# Altium integrated library NSC Audio.IntLib: 691 symbols (part 13 of 18)
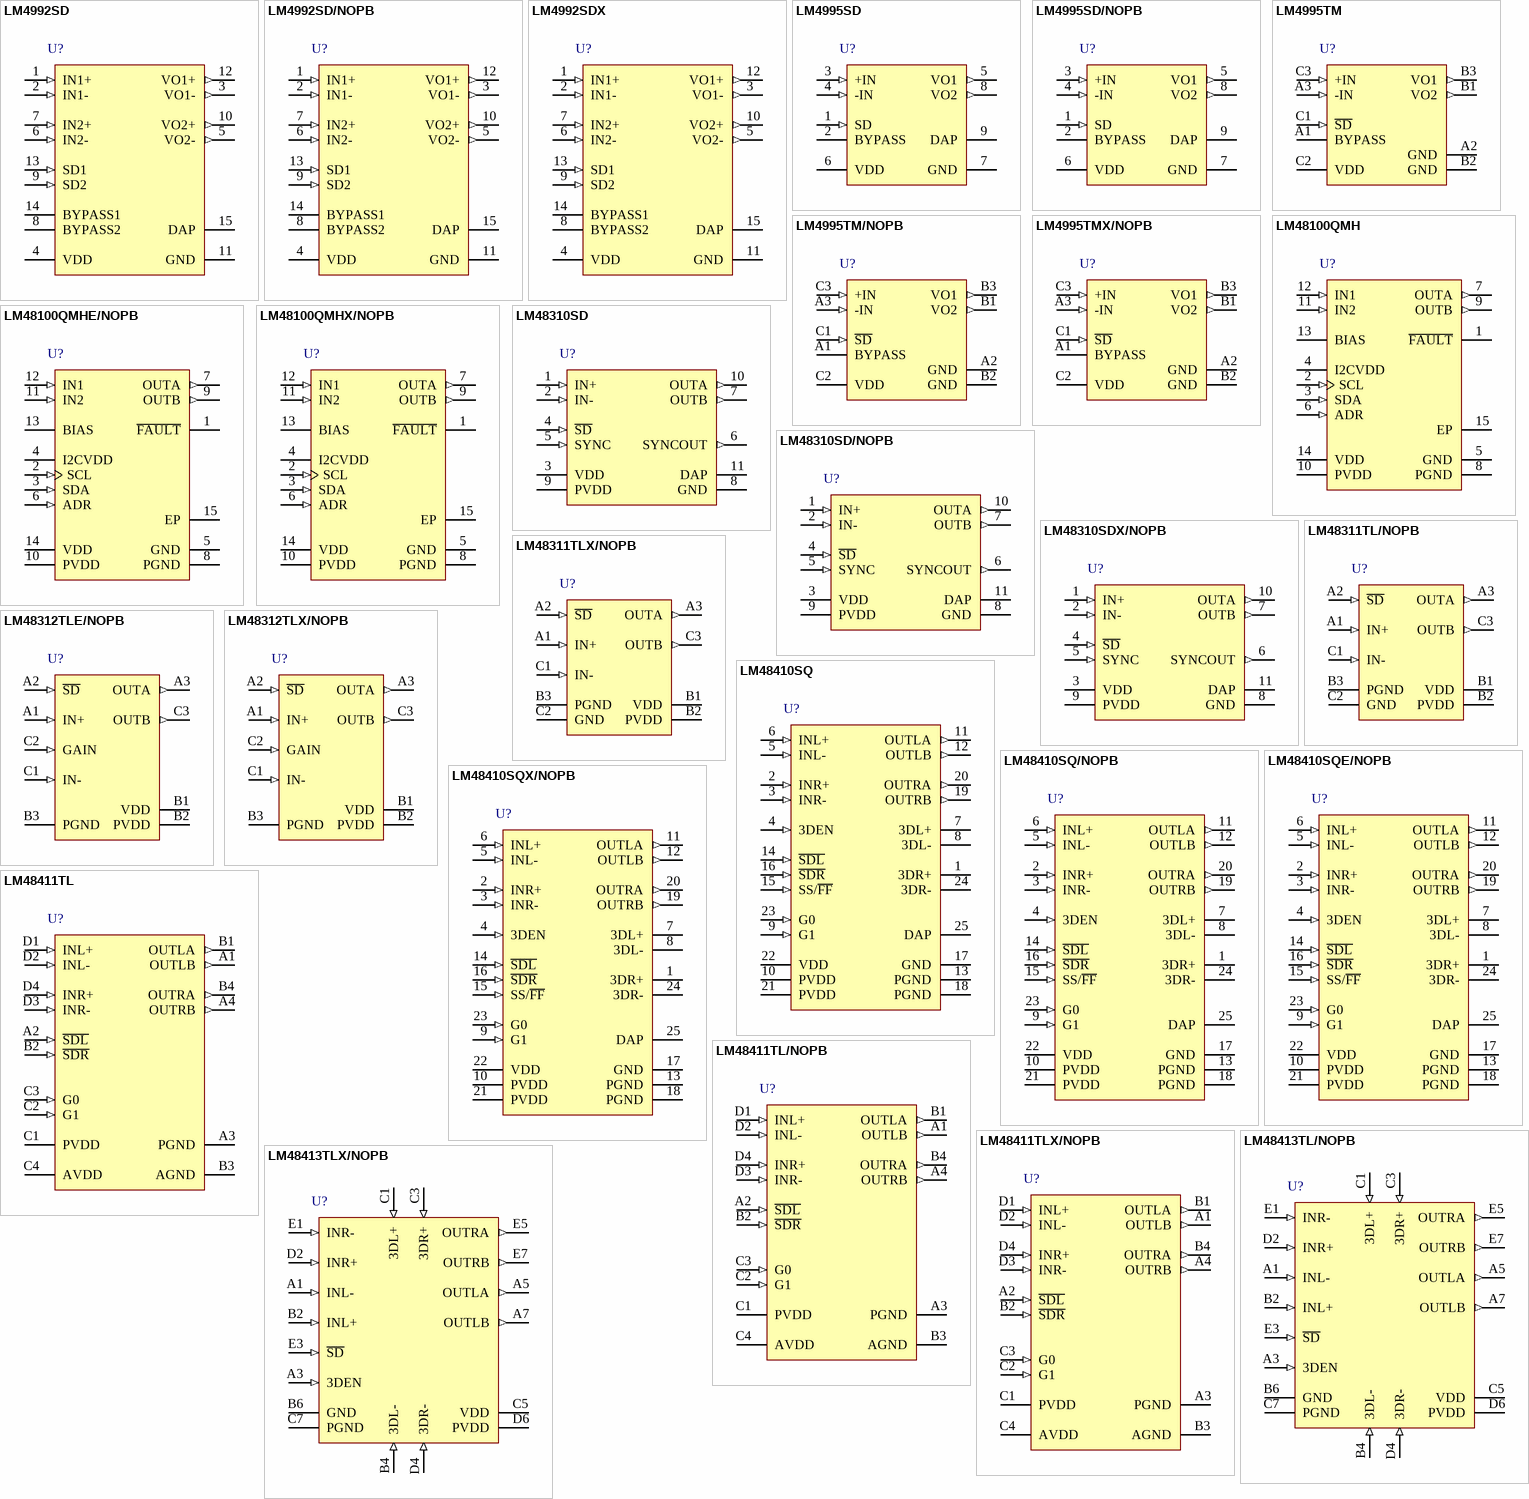
[diagram p39: symbols LM4992SD to LM48413TLX/NOPB]

## LM4992SD
designator U?
420mW Stereo Cell Phone Audio Amplifier, 15-pin LLP; PartNumber: LM4992SD; Manufacturer: National Semiconductor; PowerWise: N; CompType: Audio IC; Published: 4-Dec-2008; DatasheetVersion: Feb-2004; PackageVersion: revA, Jun-2003; PackageReference: SDA14A; Publisher: Altium Limited; PackageDescription: LLP, Plastic, Dual, 4 x 3 x 0.8mm Body, 14 Lead, 0.5mm Pitch, No Pullback; RoHS: N; PinCount: 14; ComponentLink1Description: LM4992 Datasheet; ComponentLink1URL: http://www.national.com/ds/LM/LM4992.pdf; ComponentLink2Description: LM4992 Web Page; ComponentLink2URL: http://www.national.com/pf/LM/LM4992.html; ComponentLink3Description: SDA14A Package Page; ComponentLink3URL: http://www.national.com/packaging/folders/sda14a.html
footprint SDA14A (SON, 14-Leads, Body 4x3mm, Pitch 0.5mm, NSC Recommended)
pins: 1 IN1+ (in), 2 IN1- (in), 3 VO1- (out), 4 VDD (power), 5 VO2- (out), 6 IN2- (in), 7 IN2+ (in), 8 BYPASS2, 9 SD2 (in), 10 VO2+ (out), 11 GND (power), 12 VO1+ (out), 13 SD1 (in), 14 BYPASS1, 15 DAP (power)

## LM4992SD/NOPB
designator U?
420mW Stereo Cell Phone Audio Amplifier, 14-pin LLP, Pb-Free; PartNumber: LM4992SD/NOPB; Manufacturer: National Semiconductor; PowerWise: N; CompType: Audio IC; Published: 1-Mar-2010; DatasheetVersion: Feb-2004; PackageVersion: revA, Jun-2003; PackageReference: SDA14A; Publisher: Altium Limited; PackageDescription: LLP, Plastic, Dual, 4 x 3 x 0.8mm Body, 14 Lead, 0.5mm Pitch, No Pullback; Supplier 1: Digi-Key; Supplier Part Number 1: LM4992SDTR-ND; Supplier 2: Digi-Key; Supplier Part Number 2: LM4992SDCT-ND; Supplier 3: Digi-Key; Supplier Part Number 3: LM4992SDDKR-ND; RoHS: Y; PinCount: 14; ComponentLink1Description: LM4992 Datasheet; ComponentLink1URL: http://www.national.com/ds/LM/LM4992.pdf; ComponentLink2Description: LM4992 Web Page; ComponentLink2URL: http://www.national.com/pf/LM/LM4992.html; ComponentLink3Description: SDA14A Package Page; ComponentLink3URL: http://www.national.com/packaging/folders/sda14a.html
footprint SDA14A (SON, 14-Leads, Body 4x3mm, Pitch 0.5mm, NSC Recommended)
pins: 1 IN1+ (in), 2 IN1- (in), 3 VO1- (out), 4 VDD (power), 5 VO2- (out), 6 IN2- (in), 7 IN2+ (in), 8 BYPASS2, 9 SD2 (in), 10 VO2+ (out), 11 GND (power), 12 VO1+ (out), 13 SD1 (in), 14 BYPASS1, 15 DAP (power)

## LM4992SDX
designator U?
420mW Stereo Cell Phone Audio Amplifier, 14-pin LLP; PartNumber: LM4992SDX; Manufacturer: National Semiconductor; PowerWise: N; CompType: Audio IC; Published: 1-Mar-2010; DatasheetVersion: Feb-2004; PackageVersion: revA, Jun-2003; PackageReference: SDA14A; Publisher: Altium Limited; PackageDescription: LLP, Plastic, Dual, 4 x 3 x 0.8mm Body, 14 Lead, 0.5mm Pitch, No Pullback; RoHS: N; PinCount: 14; ComponentLink1Description: LM4992 Datasheet; ComponentLink1URL: http://www.national.com/ds/LM/LM4992.pdf; ComponentLink2Description: LM4992 Web Page; ComponentLink2URL: http://www.national.com/pf/LM/LM4992.html; ComponentLink3Description: SDA14A Package Page; ComponentLink3URL: http://www.national.com/packaging/folders/sda14a.html
footprint SDA14A (SON, 14-Leads, Body 4x3mm, Pitch 0.5mm, NSC Recommended)
pins: 1 IN1+ (in), 2 IN1- (in), 3 VO1- (out), 4 VDD (power), 5 VO2- (out), 6 IN2- (in), 7 IN2+ (in), 8 BYPASS2, 9 SD2 (in), 10 VO2+ (out), 11 GND (power), 12 VO1+ (out), 13 SD1 (in), 14 BYPASS1, 15 DAP (power)

## LM4995SD
designator U?
1.3W Audio Power Amplifier, 9-pin LLP; PartNumber: LM4995SD; Manufacturer: National Semiconductor; PackageTopMarking: ZXYTT*L4995; PowerWise: N; CompType: Audio IC; Published: 4-Dec-2008; DatasheetVersion: Nov-2009; PackageVersion: revA, Aug-2003; PackageReference: SDA08A; Publisher: Altium Limited; PackageDescription: LLP, Plastic, Dual, 3 x 3 x 0.8mm Body, 8 Lead, 0.5mm Pitch, No Pullback; RoHS: Y; PinCount: 8; ComponentLink1Description: LM4995 Datasheet; ComponentLink1URL: http://www.national.com/ds/LM/LM4995.pdf; ComponentLink2Description: LM4995 Web Page; ComponentLink2URL: http://www.national.com/pf/LM/LM4995.html; ComponentLink3Description: SDA08A Package Page; ComponentLink3URL: http://www.national.com/packaging/folders/sda08a.html
footprint SDA08A (SON, 8-Leads, Body 3x3mm, Pitch 0.5mm, NSC Recommended)
pins: 1 SD (in), 2 BYPASS, 3 +IN (in), 4 -IN (in), 5 VO1 (out), 6 VDD (power), 7 GND (power), 8 VO2 (out), 9 DAP (power)

## LM4995SD/NOPB
designator U?
1.3W Audio Power Amplifier, 8-pin LLP, Pb-Free; PartNumber: LM4995SD/NOPB; Manufacturer: National Semiconductor; PackageTopMarking: ZXYTT*L4995; PowerWise: N; CompType: Audio IC; Published: 1-Mar-2010; DatasheetVersion: Nov-2009; PackageVersion: revA, Aug-2003; PackageReference: SDA08A; Publisher: Altium Limited; PackageDescription: LLP, Plastic, Dual, 3 x 3 x 0.8mm Body, 8 Lead, 0.5mm Pitch, No Pullback; Supplier 1: Digi-Key; Supplier Part Number 1: LM4995SDTR-ND; Supplier 2: Digi-Key; Supplier Part Number 2: LM4995SDCT-ND; Supplier 3: Digi-Key; Supplier Part Number 3: LM4995SDDKR-ND; RoHS: Y; PinCount: 8; ComponentLink1Description: LM4995 Datasheet; ComponentLink1URL: http://www.national.com/ds/LM/LM4995.pdf; ComponentLink2Description: LM4995 Web Page; ComponentLink2URL: http://www.national.com/pf/LM/LM4995.html; ComponentLink3Description: SDA08A Package Page; ComponentLink3URL: http://www.national.com/packaging/folders/sda08a.html
footprint SDA08A (SON, 8-Leads, Body 3x3mm, Pitch 0.5mm, NSC Recommended)
pins: 1 SD (in), 2 BYPASS, 3 +IN (in), 4 -IN (in), 5 VO1 (out), 6 VDD (power), 7 GND (power), 8 VO2 (out), 9 DAP (power)

## LM4995TM
designator U?
1.3W Audio Power Amplifier, 9-pin Micro SMD; PartNumber: LM4995TM; Manufacturer: National Semiconductor; PackageTopMarking: XVG*I G8; PowerWise: Y; CompType: Audio IC; Published: 4-Dec-2008; DatasheetVersion: Nov-2009; PackageVersion: revA, May-2005; PackageReference: TMD09AAA; Publisher: Altium Limited; PackageDescription: Thin Micro SMD, 9 Bump, 0.4mm Pitch; RoHS: Y; PinCount: 9; ComponentLink1Description: LM4995 Datasheet; ComponentLink1URL: http://www.national.com/ds/LM/LM4995.pdf; ComponentLink2Description: LM4995 Web Page; ComponentLink2URL: http://www.national.com/pf/LM/LM4995.html; ComponentLink3Description: TMD09AAA Package Page; ComponentLink3URL: http://www.national.com/packaging/folders/tmd09aaa.html
footprint TMD09AAA (Micro SMD, 9-Leads, Body 1.22x1.22mm, Pitch 0.4mm, NSC Recommended)
pins: A1 BYPASS, A2 GND (power), A3 -IN (in), B1 VO2 (out), B2 GND (power), B3 VO1 (out), C1 ~{SD} (in), C2 VDD (power), C3 +IN (in)

## LM4995TM/NOPB
designator U?
1.3W Audio Power Amplifier, 9-pin Micro SMD, Pb-Free; PartNumber: LM4995TM/NOPB; Manufacturer: National Semiconductor; PackageTopMarking: XVG*I G8; PowerWise: Y; CompType: Audio IC; Published: 1-Mar-2010; DatasheetVersion: Nov-2009; PackageVersion: revA, May-2005; PackageReference: TMD09AAA; Publisher: Altium Limited; PackageDescription: Thin Micro SMD, 9 Bump, 0.4mm Pitch; Supplier 1: Digi-Key; Supplier Part Number 1: LM4995TMTR-ND; Supplier 2: Digi-Key; Supplier Part Number 2: LM4995TMCT-ND; Supplier 3: Digi-Key; Supplier Part Number 3: LM4995TMDKR-ND; RoHS: Y; PinCount: 9; ComponentLink1Description: LM4995 Datasheet; ComponentLink1URL: http://www.national.com/ds/LM/LM4995.pdf; ComponentLink2Description: LM4995 Web Page; ComponentLink2URL: http://www.national.com/pf/LM/LM4995.html; ComponentLink3Description: TMD09AAA Package Page; ComponentLink3URL: http://www.national.com/packaging/folders/tmd09aaa.html
footprint TMD09AAA (Micro SMD, 9-Leads, Body 1.22x1.22mm, Pitch 0.4mm, NSC Recommended)
pins: A1 BYPASS, A2 GND (power), A3 -IN (in), B1 VO2 (out), B2 GND (power), B3 VO1 (out), C1 ~{SD} (in), C2 VDD (power), C3 +IN (in)

## LM4995TMX/NOPB
designator U?
1.3W Audio Power Amplifier, 9-pin Micro SMD, Pb-Free; PartNumber: LM4995TMX/NOPB; Manufacturer: National Semiconductor; PackageTopMarking: XVG*I G8; PowerWise: Y; CompType: Audio IC; Published: 1-Mar-2010; DatasheetVersion: Nov-2009; PackageVersion: revA, May-2005; PackageReference: TMD09AAA; Publisher: Altium Limited; PackageDescription: Thin Micro SMD, 9 Bump, 0.4mm Pitch; Supplier 1: Digi-Key; Supplier Part Number 1: LM4995TMX-ND; RoHS: Y; PinCount: 9; ComponentLink1Description: LM4995 Datasheet; ComponentLink1URL: http://www.national.com/ds/LM/LM4995.pdf; ComponentLink2Description: LM4995 Web Page; ComponentLink2URL: http://www.national.com/pf/LM/LM4995.html; ComponentLink3Description: TMD09AAA Package Page; ComponentLink3URL: http://www.national.com/packaging/folders/tmd09aaa.html
footprint TMD09AAA (Micro SMD, 9-Leads, Body 1.22x1.22mm, Pitch 0.4mm, NSC Recommended)
pins: A1 BYPASS, A2 GND (power), A3 -IN (in), B1 VO2 (out), B2 GND (power), B3 VO1 (out), C1 ~{SD} (in), C2 VDD (power), C3 +IN (in)

## LM48100QMH
designator U?
Mono, 1.3W Audio Power Amplifier with Output Fault Detection and Volume Control, 15-pin TSSOP-EP; PartNumber: LM48100QMH; Manufacturer: National Semiconductor; PackageTopMarking: NSUZXYTT*L48100Q; PowerWise: Y; CompType: Audio IC; Published: 4-Dec-2008; DatasheetVersion: Nov-2008; PackageVersion: revA, Feb-2003; PackageReference: MXA14A; Publisher: Altium Limited; PackageDescription: Molded TSSOP, JEDEC, Exposed Pad, 5.0 x 4.4 x 0.9mm Body, 14 Lead, 0.65mm Pitch; Supplier 1: Farnell; Supplier Part Number 1: 1697056; RoHS: Y; PinCount: 14; Code_JEDEC: MO-153-ABT-1; ComponentLink1Description: LM48100Q Datasheet; ComponentLink1URL: http://www.national.com/ds/LM/LM48100Q.pdf; ComponentLink2Description: LM48100Q Web Page; ComponentLink2URL: http://www.national.com/pf/LM/LM48100Q.html; ComponentLink3Description: MXA14A Package Page; ComponentLink3URL: http://www.national.com/packaging/folders/mxa14a.html
footprint MXA14A_N (TSOP, 14-Leads, Body 5x4.4mm, Pitch 0.65mm, Exposed Pad, IPC Medium Density)
footprint MXA14A_L (TSOP, 14-Leads, Body 5x4.4mm, Pitch 0.65mm, Exposed Pad, IPC High Density)
footprint MXA14A_M (TSOP, 14-Leads, Body 5x4.4mm, Pitch 0.65mm, Exposed Pad, IPC Low Density)
pins: 1 ~{FAULT} (oc), 2 SCL (in), 3 SDA (in), 4 I2CVDD (power), 5 GND (power), 6 ADR (in), 7 OUTA (out), 8 PGND (power), 9 OUTB (out), 10 PVDD (power), 11 IN2 (in), 12 IN1 (in), 13 BIAS, 14 VDD (power), 15 EP

## LM48100QMHE/NOPB
designator U?
Mono, 1.3W Audio Power Amplifier with Output Fault Detection and Volume Control, 14-pin TSSOP-EP, Pb-Free; PartNumber: LM48100QMHE/NOPB; Manufacturer: National Semiconductor; PackageTopMarking: NSUZXYTT*L48100Q; PowerWise: Y; CompType: Audio IC; Published: 1-Mar-2010; DatasheetVersion: Nov-2008; PackageVersion: revA, Feb-2003; PackageReference: MXA14A; Publisher: Altium Limited; PackageDescription: Molded TSSOP, JEDEC, Exposed Pad, 5.0 x 4.4 x 0.9mm Body, 14 Lead, 0.65mm Pitch; Supplier 1: Digi-Key; Supplier Part Number 1: LM48100QMHETR-ND; Supplier 2: Digi-Key; Supplier Part Number 2: LM48100QMHECT-ND; Supplier 3: Digi-Key; Supplier Part Number 3: LM48100QMHEDKR-ND; RoHS: Y; PinCount: 14; Code_JEDEC: MO-153-ABT-1; ComponentLink1Description: LM48100Q Datasheet; ComponentLink1URL: http://www.national.com/ds/LM/LM48100Q.pdf; ComponentLink2Description: LM48100Q Web Page; ComponentLink2URL: http://www.national.com/pf/LM/LM48100Q.html; ComponentLink3Description: MXA14A Package Page; ComponentLink3URL: http://www.national.com/packaging/folders/mxa14a.html
footprint MXA14A_N (TSOP, 14-Leads, Body 5x4.4mm, Pitch 0.65mm, Exposed Pad, IPC Medium Density)
footprint MXA14A_L (TSOP, 14-Leads, Body 5x4.4mm, Pitch 0.65mm, Exposed Pad, IPC High Density)
footprint MXA14A_M (TSOP, 14-Leads, Body 5x4.4mm, Pitch 0.65mm, Exposed Pad, IPC Low Density)
pins: 1 ~{FAULT} (oc), 2 SCL (in), 3 SDA (in), 4 I2CVDD (power), 5 GND (power), 6 ADR (in), 7 OUTA (out), 8 PGND (power), 9 OUTB (out), 10 PVDD (power), 11 IN2 (in), 12 IN1 (in), 13 BIAS, 14 VDD (power), 15 EP

## LM48100QMHX/NOPB
designator U?
Mono, 1.3W Audio Power Amplifier with Output Fault Detection and Volume Control, 14-pin TSSOP-EP, Pb-Free; PartNumber: LM48100QMHX/NOPB; Manufacturer: National Semiconductor; PackageTopMarking: NSUZXYTT*L48100Q; PowerWise: Y; CompType: Audio IC; Published: 1-Mar-2010; DatasheetVersion: Nov-2008; PackageVersion: revA, Feb-2003; PackageReference: MXA14A; Publisher: Altium Limited; PackageDescription: Molded TSSOP, JEDEC, Exposed Pad, 5.0 x 4.4 x 0.9mm Body, 14 Lead, 0.65mm Pitch; Supplier 1: Digi-Key; Supplier Part Number 1: LM48100QMHX-ND; RoHS: Y; PinCount: 14; Code_JEDEC: MO-153-ABT-1; ComponentLink1Description: LM48100Q Datasheet; ComponentLink1URL: http://www.national.com/ds/LM/LM48100Q.pdf; ComponentLink2Description: LM48100Q Web Page; ComponentLink2URL: http://www.national.com/pf/LM/LM48100Q.html; ComponentLink3Description: MXA14A Package Page; ComponentLink3URL: http://www.national.com/packaging/folders/mxa14a.html
footprint MXA14A_N (TSOP, 14-Leads, Body 5x4.4mm, Pitch 0.65mm, Exposed Pad, IPC Medium Density)
footprint MXA14A_L (TSOP, 14-Leads, Body 5x4.4mm, Pitch 0.65mm, Exposed Pad, IPC High Density)
footprint MXA14A_M (TSOP, 14-Leads, Body 5x4.4mm, Pitch 0.65mm, Exposed Pad, IPC Low Density)
pins: 1 ~{FAULT} (oc), 2 SCL (in), 3 SDA (in), 4 I2CVDD (power), 5 GND (power), 6 ADR (in), 7 OUTA (out), 8 PGND (power), 9 OUTB (out), 10 PVDD (power), 11 IN2 (in), 12 IN1 (in), 13 BIAS, 14 VDD (power), 15 EP

## LM48310SD
designator U?
Ultra-Low EMI, Filterless, 2.6W, Mono, Class D Audio Power Amplifier with E2S, 11-pin LLP; PartNumber: LM48310SD; Manufacturer: National Semiconductor; PackageTopMarking: ZXYTT*GI8; PowerWise: Y; CompType: Audio IC; Published: 4-Dec-2008; DatasheetVersion: Jun-2008; PackageVersion: revA, Oct-2003; PackageReference: SDA10A; Publisher: Altium Limited; PackageDescription: LLP, Plastic, Dual, 3 x 3 x 0.8mm Body, 10 Lead, 0.5mm Pitch, No Pullback; RoHS: Y; PinCount: 10; ComponentLink1Description: LM48310 Datasheet; ComponentLink1URL: http://www.national.com/ds/LM/LM48310.pdf; ComponentLink2Description: LM48310 Web Page; ComponentLink2URL: http://www.national.com/pf/LM/LM48310.html; ComponentLink3Description: SDA10A Package Page; ComponentLink3URL: http://www.national.com/packaging/folders/sda10a.html
footprint SDA10A (SON, 10-Leads, Body 3x3 mm, Pitch 0.5mm, NSC Recommended)
pins: 1 IN+ (in), 2 IN- (in), 3 VDD (power), 4 ~{SD} (in), 5 SYNC (in), 6 SYNCOUT (out), 7 OUTB (out), 8 GND (power), 9 PVDD (power), 10 OUTA (out), 11 DAP (power)

## LM48310SD/NOPB
designator U?
Ultra-Low EMI, Filterless, 2.6W, Mono, Class D Audio Power Amplifier with E2S, 10-pin LLP, Pb-Free; PartNumber: LM48310SD/NOPB; Manufacturer: National Semiconductor; PackageTopMarking: ZXYTT*GI8; PowerWise: Y; CompType: Audio IC; Published: 1-Mar-2010; DatasheetVersion: Jun-2008; PackageVersion: revA, Oct-2003; PackageReference: SDA10A; Publisher: Altium Limited; PackageDescription: LLP, Plastic, Dual, 3 x 3 x 0.8mm Body, 10 Lead, 0.5mm Pitch, No Pullback; Supplier 1: Digi-Key; Supplier Part Number 1: LM48310SDTR-ND; Supplier 2: Digi-Key; Supplier Part Number 2: LM48310SDCT-ND; Supplier 3: Digi-Key; Supplier Part Number 3: LM48310SDDKR-ND; RoHS: Y; PinCount: 10; ComponentLink1Description: LM48310 Datasheet; ComponentLink1URL: http://www.national.com/ds/LM/LM48310.pdf; ComponentLink2Description: LM48310 Web Page; ComponentLink2URL: http://www.national.com/pf/LM/LM48310.html; ComponentLink3Description: SDA10A Package Page; ComponentLink3URL: http://www.national.com/packaging/folders/sda10a.html
footprint SDA10A (SON, 10-Leads, Body 3x3 mm, Pitch 0.5mm, NSC Recommended)
pins: 1 IN+ (in), 2 IN- (in), 3 VDD (power), 4 ~{SD} (in), 5 SYNC (in), 6 SYNCOUT (out), 7 OUTB (out), 8 GND (power), 9 PVDD (power), 10 OUTA (out), 11 DAP (power)

## LM48310SDX/NOPB
designator U?
Ultra-Low EMI, Filterless, 2.6W, Mono, Class D Audio Power Amplifier with E2S, 10-pin LLP, Pb-Free; PartNumber: LM48310SDX/NOPB; Manufacturer: National Semiconductor; PackageTopMarking: ZXYTT*GI8; PowerWise: Y; CompType: Audio IC; Published: 1-Mar-2010; DatasheetVersion: Jun-2008; PackageVersion: revA, Oct-2003; PackageReference: SDA10A; Publisher: Altium Limited; PackageDescription: LLP, Plastic, Dual, 3 x 3 x 0.8mm Body, 10 Lead, 0.5mm Pitch, No Pullback; Supplier 1: Digi-Key; Supplier Part Number 1: LM48310SDX-ND; RoHS: Y; PinCount: 10; ComponentLink1Description: LM48310 Datasheet; ComponentLink1URL: http://www.national.com/ds/LM/LM48310.pdf; ComponentLink2Description: LM48310 Web Page; ComponentLink2URL: http://www.national.com/pf/LM/LM48310.html; ComponentLink3Description: SDA10A Package Page; ComponentLink3URL: http://www.national.com/packaging/folders/sda10a.html
footprint SDA10A (SON, 10-Leads, Body 3x3 mm, Pitch 0.5mm, NSC Recommended)
pins: 1 IN+ (in), 2 IN- (in), 3 VDD (power), 4 ~{SD} (in), 5 SYNC (in), 6 SYNCOUT (out), 7 OUTB (out), 8 GND (power), 9 PVDD (power), 10 OUTA (out), 11 DAP (power)

## LM48311TL/NOPB
designator U?
Ultra-Low EMI, Filterless, 2.6W, Mono, Class D Audio Power Amplifier with E2S, 9-pin Micro SMD, Pb-Free; PartNumber: LM48311TL/NOPB; Manufacturer: National Semiconductor; PackageTopMarking: XVG*I N1; PowerWise: Y; CompType: Audio IC; Published: 1-Mar-2010; DatasheetVersion: Jun-2009; PackageVersion: revC, Jan-2004; PackageReference: TLA09BCA; Publisher: Altium Limited; PackageDescription: Thin Micro SMD, 9 Bump (Large), 0.5mm Pitch; Supplier 1: Digi-Key; Supplier Part Number 1: LM48311TLTR-ND; Supplier 2: Digi-Key; Supplier Part Number 2: LM48311TLCT-ND; Supplier 3: Digi-Key; Supplier Part Number 3: LM48311TLDKR-ND; RoHS: Y; PinCount: 9; Code_JEDEC: MO-211-DD; ComponentLink1Description: LM48311 Datasheet; ComponentLink1URL: http://www.national.com/ds/LM/LM48311.pdf; ComponentLink2Description: LM48311 Web Page; ComponentLink2URL: http://www.national.com/pf/LM/LM48311.html; ComponentLink3Description: TLA09BCA Package Page; ComponentLink3URL: http://www.national.com/packaging/folders/tla09bca.html
footprint TLA09BCA (Micro SMD, 9-Leads, Body 1.57x1.54mm, Pitch 0.5mm, NSC Recommended)
pins: A1 IN+ (in), A2 ~{SD} (in), A3 OUTA (out), B1 VDD (power), B2 PVDD (power), B3 PGND (power), C1 IN- (in), C2 GND (power), C3 OUTB (out)

## LM48311TLX/NOPB
designator U?
Ultra-Low EMI, Filterless, 2.6W, Mono, Class D Audio Power Amplifier with E2S, 9-pin Micro SMD, Pb-Free; PartNumber: LM48311TLX/NOPB; Manufacturer: National Semiconductor; PackageTopMarking: XVG*I N1; PowerWise: Y; CompType: Audio IC; Published: 1-Mar-2010; DatasheetVersion: Jun-2009; PackageVersion: revC, Jan-2004; PackageReference: TLA09BCA; Publisher: Altium Limited; PackageDescription: Thin Micro SMD, 9 Bump (Large), 0.5mm Pitch; Supplier 1: Digi-Key; Supplier Part Number 1: LM48311TLX-ND; RoHS: Y; PinCount: 9; Code_JEDEC: MO-211-DD; ComponentLink1Description: LM48311 Datasheet; ComponentLink1URL: http://www.national.com/ds/LM/LM48311.pdf; ComponentLink2Description: LM48311 Web Page; ComponentLink2URL: http://www.national.com/pf/LM/LM48311.html; ComponentLink3Description: TLA09BCA Package Page; ComponentLink3URL: http://www.national.com/packaging/folders/tla09bca.html
footprint TLA09BCA (Micro SMD, 9-Leads, Body 1.57x1.54mm, Pitch 0.5mm, NSC Recommended)
pins: A1 IN+ (in), A2 ~{SD} (in), A3 OUTA (out), B1 VDD (power), B2 PVDD (power), B3 PGND (power), C1 IN- (in), C2 GND (power), C3 OUTB (out)

## LM48312TLE/NOPB
designator U?
2.6W, Ultra-Low EMI, Filterless, Mono Class D Audio Power Amplifier with E2S, 9-pin Micro SMD, Pb-Free; PartNumber: LM48312TLE/NOPB; Manufacturer: National Semiconductor; PackageTopMarking: XVG*I N4; PowerWise: N; CompType: Audio IC; Published: 1-Mar-2010; DatasheetVersion: Jan-2010; PackageVersion: revC, Jan-2004; PackageReference: TLA09BCA; Publisher: Altium Limited; PackageDescription: Thin Micro SMD, 9 Bump (Large), 0.5mm Pitch; Supplier 1: Digi-Key; Supplier Part Number 1: LM48312TLE/NOPBTR-ND; Supplier 2: Digi-Key; Supplier Part Number 2: LM48312TLE/NOPBCT-ND; Supplier 3: Digi-Key; Supplier Part Number 3: LM48312TLE/NOPBDKR-ND; RoHS: Y; PinCount: 9; Code_JEDEC: MO-211-DD; ComponentLink1Description: LM48312 Datasheet; ComponentLink1URL: http://www.national.com/ds/LM/LM48312.pdf; ComponentLink2Description: LM48312 Web Page; ComponentLink2URL: http://www.national.com/pf/LM/LM48312.html; ComponentLink3Description: TLA09BCA Package Page; ComponentLink3URL: http://www.national.com/packaging/folders/tla09bca.html
footprint TLA09BCA (Micro SMD, 9-Leads, Body 1.57x1.54mm, Pitch 0.5mm, NSC Recommended)
pins: A1 IN+ (in), A2 ~{SD} (in), A3 OUTA (out), B1 VDD (power), B2 PVDD (power), B3 PGND (power), C1 IN- (in), C2 GAIN (in), C3 OUTB (out)

## LM48312TLX/NOPB
designator U?
2.6W, Ultra-Low EMI, Filterless, Mono Class D Audio Power Amplifier with E2S, 9-pin Micro SMD, Pb-Free; PartNumber: LM48312TLX/NOPB; Manufacturer: National Semiconductor; PackageTopMarking: XVG*I N4; PowerWise: N; CompType: Audio IC; Published: 1-Mar-2010; DatasheetVersion: Jan-2010; PackageVersion: revC, Jan-2004; PackageReference: TLA09BCA; Publisher: Altium Limited; PackageDescription: Thin Micro SMD, 9 Bump (Large), 0.5mm Pitch; Supplier 1: Digi-Key; Supplier Part Number 1: LM48312TLX/NOPB-ND; RoHS: Y; PinCount: 9; Code_JEDEC: MO-211-DD; ComponentLink1Description: LM48312 Datasheet; ComponentLink1URL: http://www.national.com/ds/LM/LM48312.pdf; ComponentLink2Description: LM48312 Web Page; ComponentLink2URL: http://www.national.com/pf/LM/LM48312.html; ComponentLink3Description: TLA09BCA Package Page; ComponentLink3URL: http://www.national.com/packaging/folders/tla09bca.html
footprint TLA09BCA (Micro SMD, 9-Leads, Body 1.57x1.54mm, Pitch 0.5mm, NSC Recommended)
pins: A1 IN+ (in), A2 ~{SD} (in), A3 OUTA (out), B1 VDD (power), B2 PVDD (power), B3 PGND (power), C1 IN- (in), C2 GAIN (in), C3 OUTB (out)

## LM48410SQ
designator U?
Low EMI, Filterless, 2.3W Stereo Class D Audio Power Amplifier with National 3D Enhancement, 25-pin LLP; PartNumber: LM48410SQ; Manufacturer: National Semiconductor; PackageTopMarking: NS*UZXYTT*L48410; PowerWise: N; CompType: Audio IC; Published: 4-Dec-2008; DatasheetVersion: Jul-2008; PackageVersion: revB, Aug-2003; PackageReference: SQA24A; Publisher: Altium Limited; PackageDescription: LLP, Plastic, Quad, 4 x 4 x 0.8mm Body, 24 Lead, 0.5mm Pitch, No Pullback; Supplier 1: Farnell; Supplier Part Number 1: 1342343; RoHS: Y; PinCount: 24; Code_JEDEC: MO-220-WGGD-6; ComponentLink1Description: LM48410 Datasheet; ComponentLink1URL: http://www.national.com/ds/LM/LM48410.pdf; ComponentLink2Description: LM48410 Web Page; ComponentLink2URL: http://www.national.com/pf/LM/LM48410.html; ComponentLink3Description: SQA24A Package Page; ComponentLink3URL: http://www.national.com/packaging/folders/sqa24a.html
footprint SQA24A (QFN, 24-Leads, Body 4x4mm, Pitch 0.5mm, NSC Recommended)
pins: 1 3DR+, 2 INR+ (in), 3 INR- (in), 4 3DEN (in), 5 INL- (in), 6 INL+ (in), 7 3DL+, 8 3DL-, 9 G1 (in), 10 PVDD (power), 11 OUTLA (out), 12 OUTLB (out), 13 PGND (power), 14 ~{SDL} (in), 15 SS/~{FF} (in), 16 ~{SDR} (in), 17 GND (power), 18 PGND (power), 19 OUTRB (out), 20 OUTRA (out), 21 PVDD (power), 22 VDD (power), 23 G0 (in), 24 3DR-, 25 DAP (power)

## LM48410SQ/NOPB
designator U?
Low EMI, Filterless, 2.3W Stereo Class D Audio Power Amplifier with National 3D Enhancement, 24-pin LLP, Pb-Free; PartNumber: LM48410SQ/NOPB; Manufacturer: National Semiconductor; PackageTopMarking: NS*UZXYTT*L48410; PowerWise: N; CompType: Audio IC; Published: 1-Mar-2010; DatasheetVersion: Jul-2008; PackageVersion: revB, Aug-2003; PackageReference: SQA24A; Publisher: Altium Limited; PackageDescription: LLP, Plastic, Quad, 4 x 4 x 0.8mm Body, 24 Lead, 0.5mm Pitch, No Pullback; Supplier 1: Digi-Key; Supplier Part Number 1: LM48410SQTR-ND; Supplier 2: Digi-Key; Supplier Part Number 2: LM48410SQCT-ND; Supplier 3: Digi-Key; Supplier Part Number 3: LM48410SQDKR-ND; RoHS: Y; PinCount: 24; Code_JEDEC: MO-220-WGGD-6; ComponentLink1Description: LM48410 Datasheet; ComponentLink1URL: http://www.national.com/ds/LM/LM48410.pdf; ComponentLink2Description: LM48410 Web Page; ComponentLink2URL: http://www.national.com/pf/LM/LM48410.html; ComponentLink3Description: SQA24A Package Page; ComponentLink3URL: http://www.national.com/packaging/folders/sqa24a.html
footprint SQA24A (QFN, 24-Leads, Body 4x4mm, Pitch 0.5mm, NSC Recommended)
pins: 1 3DR+, 2 INR+ (in), 3 INR- (in), 4 3DEN (in), 5 INL- (in), 6 INL+ (in), 7 3DL+, 8 3DL-, 9 G1 (in), 10 PVDD (power), 11 OUTLA (out), 12 OUTLB (out), 13 PGND (power), 14 ~{SDL} (in), 15 SS/~{FF} (in), 16 ~{SDR} (in), 17 GND (power), 18 PGND (power), 19 OUTRB (out), 20 OUTRA (out), 21 PVDD (power), 22 VDD (power), 23 G0 (in), 24 3DR-, 25 DAP (power)

## LM48410SQE/NOPB
designator U?
Low EMI, Filterless, 2.3W Stereo Class D Audio Power Amplifier with National 3D Enhancement, 24-pin LLP, Pb-Free; PartNumber: LM48410SQE/NOPB; Manufacturer: National Semiconductor; PackageTopMarking: NS*UZXYTT*L48410; PowerWise: N; CompType: Audio IC; Published: 1-Mar-2010; DatasheetVersion: Jul-2008; PackageVersion: revB, Aug-2003; PackageReference: SQA24A; Publisher: Altium Limited; PackageDescription: LLP, Plastic, Quad, 4 x 4 x 0.8mm Body, 24 Lead, 0.5mm Pitch, No Pullback; Supplier 1: Digi-Key; Supplier Part Number 1: LM48410SQE-ND; RoHS: Y; PinCount: 24; Code_JEDEC: MO-220-WGGD-6; ComponentLink1Description: LM48410 Datasheet; ComponentLink1URL: http://www.national.com/ds/LM/LM48410.pdf; ComponentLink2Description: LM48410 Web Page; ComponentLink2URL: http://www.national.com/pf/LM/LM48410.html; ComponentLink3Description: SQA24A Package Page; ComponentLink3URL: http://www.national.com/packaging/folders/sqa24a.html
footprint SQA24A (QFN, 24-Leads, Body 4x4mm, Pitch 0.5mm, NSC Recommended)
pins: 1 3DR+, 2 INR+ (in), 3 INR- (in), 4 3DEN (in), 5 INL- (in), 6 INL+ (in), 7 3DL+, 8 3DL-, 9 G1 (in), 10 PVDD (power), 11 OUTLA (out), 12 OUTLB (out), 13 PGND (power), 14 ~{SDL} (in), 15 SS/~{FF} (in), 16 ~{SDR} (in), 17 GND (power), 18 PGND (power), 19 OUTRB (out), 20 OUTRA (out), 21 PVDD (power), 22 VDD (power), 23 G0 (in), 24 3DR-, 25 DAP (power)

## LM48410SQX/NOPB
designator U?
Low EMI, Filterless, 2.3W Stereo Class D Audio Power Amplifier with National 3D Enhancement, 24-pin LLP, Pb-Free; PartNumber: LM48410SQX/NOPB; Manufacturer: National Semiconductor; PackageTopMarking: NS*UZXYTT*L48410; PowerWise: N; CompType: Audio IC; Published: 1-Mar-2010; DatasheetVersion: Jul-2008; PackageVersion: revB, Aug-2003; PackageReference: SQA24A; Publisher: Altium Limited; PackageDescription: LLP, Plastic, Quad, 4 x 4 x 0.8mm Body, 24 Lead, 0.5mm Pitch, No Pullback; Supplier 1: Digi-Key; Supplier Part Number 1: LM48410SQX-ND; RoHS: Y; PinCount: 24; Code_JEDEC: MO-220-WGGD-6; ComponentLink1Description: LM48410 Datasheet; ComponentLink1URL: http://www.national.com/ds/LM/LM48410.pdf; ComponentLink2Description: LM48410 Web Page; ComponentLink2URL: http://www.national.com/pf/LM/LM48410.html; ComponentLink3Description: SQA24A Package Page; ComponentLink3URL: http://www.national.com/packaging/folders/sqa24a.html
footprint SQA24A (QFN, 24-Leads, Body 4x4mm, Pitch 0.5mm, NSC Recommended)
pins: 1 3DR+, 2 INR+ (in), 3 INR- (in), 4 3DEN (in), 5 INL- (in), 6 INL+ (in), 7 3DL+, 8 3DL-, 9 G1 (in), 10 PVDD (power), 11 OUTLA (out), 12 OUTLB (out), 13 PGND (power), 14 ~{SDL} (in), 15 SS/~{FF} (in), 16 ~{SDR} (in), 17 GND (power), 18 PGND (power), 19 OUTRB (out), 20 OUTRA (out), 21 PVDD (power), 22 VDD (power), 23 G0 (in), 24 3DR-, 25 DAP (power)

## LM48411TL
designator U?
Ultra-Low EMI, Filterless, 2.5W, Stereo, Class D Audio Power Amplifier with E 2 S, 16-pin Micro SMD; PartNumber: LM48411TL; Manufacturer: National Semiconductor; PackageTopMarking: XYTT*I GJ2; PowerWise: Y; CompType: Audio IC; Published: 4-Dec-2008; DatasheetVersion: Jul-2008; PackageVersion: revC, Jan-2004; PackageReference: TLA16ACA; Publisher: Altium Limited; PackageDescription: Thin Micro SMD, 16 Bump (Large), 0.5mm Pitch; RoHS: Y; PinCount: 16; Code_JEDEC: MO-211-DF; ComponentLink1Description: LM48411 Datasheet; ComponentLink1URL: http://www.national.com/ds/LM/LM48411.pdf; ComponentLink2Description: LM48411 Web Page; ComponentLink2URL: http://www.national.com/pf/LM/LM48411.html; ComponentLink3Description: TLA16ACA Package Page; ComponentLink3URL: http://www.national.com/packaging/folders/tla16aca.html
footprint TLA16ACA (Micro SMD, 16-Leads, Body 2.05x2.0mm, Pitch 0.5mm, NSC Recommended)
pins: A1 OUTLB (out), A2 ~{SDL} (in), A3 PGND (power), A4 OUTRB (out), B1 OUTLA (out), B2 ~{SDR} (in), B3 AGND (power), B4 OUTRA (out), C1 PVDD (power), C2 G1 (in), C3 G0 (in), C4 AVDD (power), D1 INL+ (in), D2 INL- (in), D3 INR- (in), D4 INR+ (in)

## LM48411TL/NOPB
designator U?
Ultra-Low EMI, Filterless, 2.5W, Stereo, Class D Audio Power Amplifier with E 2 S, 16-pin Micro SMD, Pb-Free; PartNumber: LM48411TL/NOPB; Manufacturer: National Semiconductor; PackageTopMarking: XYTT*I GJ2; PowerWise: Y; CompType: Audio IC; Published: 1-Mar-2010; DatasheetVersion: Jul-2008; PackageVersion: revC, Jan-2004; PackageReference: TLA16ACA; Publisher: Altium Limited; PackageDescription: Thin Micro SMD, 16 Bump (Large), 0.5mm Pitch; Supplier 1: Digi-Key; Supplier Part Number 1: LM48411TLTR-ND; Supplier 2: Digi-Key; Supplier Part Number 2: LM48411TLCT-ND; Supplier 3: Digi-Key; Supplier Part Number 3: LM48411TLDKR-ND; Supplier 4: Farnell; Supplier Part Number 4: 1685349; RoHS: Y; PinCount: 16; Code_JEDEC: MO-211-DF; ComponentLink1Description: LM48411 Datasheet; ComponentLink1URL: http://www.national.com/ds/LM/LM48411.pdf; ComponentLink2Description: LM48411 Web Page; ComponentLink2URL: http://www.national.com/pf/LM/LM48411.html; ComponentLink3Description: TLA16ACA Package Page; ComponentLink3URL: http://www.national.com/packaging/folders/tla16aca.html
footprint TLA16ACA (Micro SMD, 16-Leads, Body 2.05x2.0mm, Pitch 0.5mm, NSC Recommended)
pins: A1 OUTLB (out), A2 ~{SDL} (in), A3 PGND (power), A4 OUTRB (out), B1 OUTLA (out), B2 ~{SDR} (in), B3 AGND (power), B4 OUTRA (out), C1 PVDD (power), C2 G1 (in), C3 G0 (in), C4 AVDD (power), D1 INL+ (in), D2 INL- (in), D3 INR- (in), D4 INR+ (in)

## LM48411TLX/NOPB
designator U?
Ultra-Low EMI, Filterless, 2.5W, Stereo, Class D Audio Power Amplifier with E 2 S, 16-pin Micro SMD, Pb-Free; PartNumber: LM48411TLX/NOPB; Manufacturer: National Semiconductor; PackageTopMarking: XYTT*I GJ2; PowerWise: Y; CompType: Audio IC; Published: 1-Mar-2010; DatasheetVersion: Jul-2008; PackageVersion: revC, Jan-2004; PackageReference: TLA16ACA; Publisher: Altium Limited; PackageDescription: Thin Micro SMD, 16 Bump (Large), 0.5mm Pitch; Supplier 1: Digi-Key; Supplier Part Number 1: LM48411TLX-ND; RoHS: Y; PinCount: 16; Code_JEDEC: MO-211-DF; ComponentLink1Description: LM48411 Datasheet; ComponentLink1URL: http://www.national.com/ds/LM/LM48411.pdf; ComponentLink2Description: LM48411 Web Page; ComponentLink2URL: http://www.national.com/pf/LM/LM48411.html; ComponentLink3Description: TLA16ACA Package Page; ComponentLink3URL: http://www.national.com/packaging/folders/tla16aca.html
footprint TLA16ACA (Micro SMD, 16-Leads, Body 2.05x2.0mm, Pitch 0.5mm, NSC Recommended)
pins: A1 OUTLB (out), A2 ~{SDL} (in), A3 PGND (power), A4 OUTRB (out), B1 OUTLA (out), B2 ~{SDR} (in), B3 AGND (power), B4 OUTRA (out), C1 PVDD (power), C2 G1 (in), C3 G0 (in), C4 AVDD (power), D1 INL+ (in), D2 INL- (in), D3 INR- (in), D4 INR+ (in)

## LM48413TL/NOPB
designator U?
Ultra Low EMI, Filterless, 1.2W Stereo Class D Audio Power Amplifier with E2S and National 3D Enhancement, 18-pin Micro SMD, Pb-Free; PartNumber: LM48413TL/NOPB; Manufacturer: National Semiconductor; PackageTopMarking: XYTT*I GL2; PowerWise: N; CompType: Audio IC; Published: 1-Mar-2010; DatasheetVersion: Jan-2009; PackageVersion: revD, Jan-2005; PackageReference: TLA18CBA; Publisher: Altium Limited; PackageDescription: Thin Micro SMD, 18 Bump (Large), 0.5mm Pitch; Supplier 1: Digi-Key; Supplier Part Number 1: LM48413TLTR-ND; Supplier 2: Digi-Key; Supplier Part Number 2: LM48413TLCT-ND; Supplier 3: Digi-Key; Supplier Part Number 3: LM48413TLDKR-ND; Supplier 4: Farnell; Supplier Part Number 4: 1690928; RoHS: Y; PinCount: 18; ComponentLink1Description: LM48413 Datasheet; ComponentLink1URL: http://www.national.com/ds/LM/LM48413.pdf; ComponentLink2Description: LM48413 Web Page; ComponentLink2URL: http://www.national.com/pf/LM/LM48413.html; ComponentLink3Description: TLA18CBA Package Page; ComponentLink3URL: http://www.national.com/packaging/folders/tla18cba.html
footprint TLA18CBA (Micro SMD, 18-Leads, Body 2.25x2.05mm, Pitch 0.5mm, NSC Recommended)
pins: A1 INL- (in), A3 3DEN (in), A5 OUTLA (out), A7 OUTLB (out), B2 INL+ (in), B4 3DL- (in), B6 GND (power), C1 3DL+ (in), C3 3DR+ (in), C5 VDD (power), C7 PGND (power), D2 INR+ (in), D4 3DR- (in), D6 PVDD (power), E1 INR- (in), E3 ~{SD} (in), E5 OUTRA (out), E7 OUTRB (out)

## LM48413TLX/NOPB
designator U?
Ultra Low EMI, Filterless, 1.2W Stereo Class D Audio Power Amplifier with E2S and National 3D Enhancement, 18-pin Micro SMD, Pb-Free; PartNumber: LM48413TLX/NOPB; Manufacturer: National Semiconductor; PackageTopMarking: XYTT*I GL2; PowerWise: N; CompType: Audio IC; Published: 1-Mar-2010; DatasheetVersion: Jan-2009; PackageVersion: revD, Jan-2005; PackageReference: TLA18CBA; Publisher: Altium Limited; PackageDescription: Thin Micro SMD, 18 Bump (Large), 0.5mm Pitch; Supplier 1: Digi-Key; Supplier Part Number 1: LM48413TLX-ND; RoHS: Y; PinCount: 18; ComponentLink1Description: LM48413 Datasheet; ComponentLink1URL: http://www.national.com/ds/LM/LM48413.pdf; ComponentLink2Description: LM48413 Web Page; ComponentLink2URL: http://www.national.com/pf/LM/LM48413.html; ComponentLink3Description: TLA18CBA Package Page; ComponentLink3URL: http://www.national.com/packaging/folders/tla18cba.html
footprint TLA18CBA (Micro SMD, 18-Leads, Body 2.25x2.05mm, Pitch 0.5mm, NSC Recommended)
pins: A1 INL- (in), A3 3DEN (in), A5 OUTLA (out), A7 OUTLB (out), B2 INL+ (in), B4 3DL- (in), B6 GND (power), C1 3DL+ (in), C3 3DR+ (in), C5 VDD (power), C7 PGND (power), D2 INR+ (in), D4 3DR- (in), D6 PVDD (power), E1 INR- (in), E3 ~{SD} (in), E5 OUTRA (out), E7 OUTRB (out)

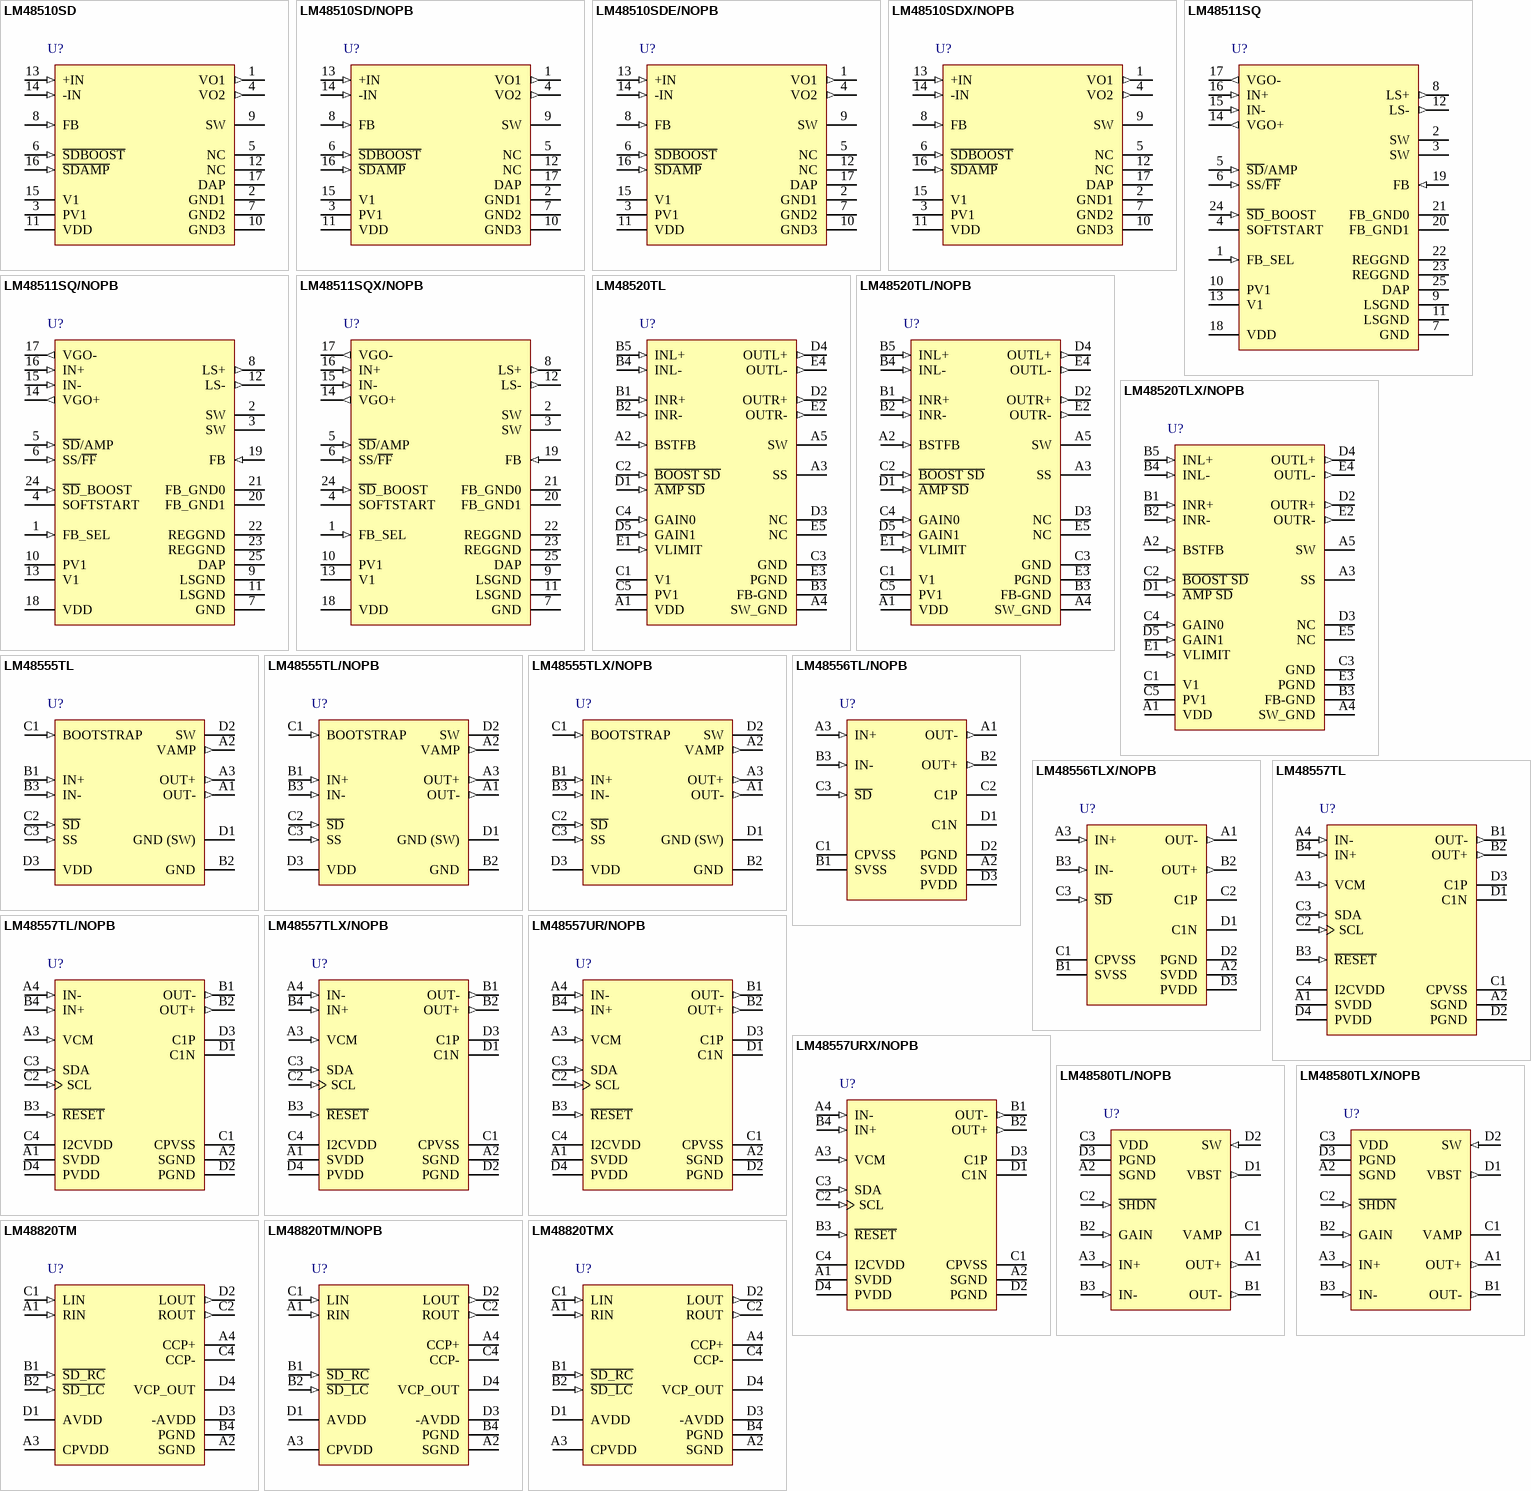
[diagram p19: symbols LM48510SD to LM48820TMX]

## LM48510SD
designator U?
Boosted Class D Audio Power Amplifier, 17-pin LLP; PartNumber: LM48510SD; Manufacturer: National Semiconductor; PackageTopMarking: NS*UZXYTT*L48510; PowerWise: N; CompType: Audio IC; Published: 4-Dec-2008; DatasheetVersion: Oct-2007; PackageVersion: revA, Dec-2004; PackageReference: SDA16B; Publisher: Altium Limited; PackageDescription: LLP, Plastic, Dual, 5 x 4 x 0.8mm, 16 Lead, 0.5mm Pitch, No Pullback; Supplier 1: Farnell; Supplier Part Number 1: 1320974; RoHS: N; PinCount: 16; ComponentLink1Description: LM48510 Datasheet; ComponentLink1URL: http://www.national.com/ds/LM/LM48510.pdf; ComponentLink2Description: LM48510 Web Page; ComponentLink2URL: http://www.national.com/pf/LM/LM48510.html; ComponentLink3Description: SDA16B Package Page; ComponentLink3URL: http://www.national.com/packaging/folders/sda16b.html
footprint SDA16B (SON, 16-Leads, Body 5x4mm, Pitch 0.5mm, NSC Recommended)
pins: 1 VO1 (out), 2 GND1 (power), 3 PV1 (power), 4 VO2 (out), 5 NC, 6 ~{SDBOOST} (in), 7 GND2 (power), 8 FB (in), 9 SW, 10 GND3 (power), 11 VDD (power), 12 NC, 13 +IN (in), 14 -IN (in), 15 V1 (power), 16 ~{SDAMP} (in), 17 DAP (power)

## LM48510SD/NOPB
designator U?
Boosted Class D Audio Power Amplifier, 16-pin LLP, Pb-Free; PartNumber: LM48510SD/NOPB; Manufacturer: National Semiconductor; PackageTopMarking: NS*UZXYTT*L48510; PowerWise: N; CompType: Audio IC; Published: 1-Mar-2010; DatasheetVersion: Oct-2007; PackageVersion: revA, Dec-2004; PackageReference: SDA16B; Publisher: Altium Limited; PackageDescription: LLP, Plastic, Dual, 5 x 4 x 0.8mm, 16 Lead, 0.5mm Pitch, No Pullback; Supplier 1: Digi-Key; Supplier Part Number 1: LM48510SDTR-ND; Supplier 2: Digi-Key; Supplier Part Number 2: LM48510SDCT-ND; Supplier 3: Digi-Key; Supplier Part Number 3: LM48510SDDKR-ND; RoHS: Y; PinCount: 16; ComponentLink1Description: LM48510 Datasheet; ComponentLink1URL: http://www.national.com/ds/LM/LM48510.pdf; ComponentLink2Description: LM48510 Web Page; ComponentLink2URL: http://www.national.com/pf/LM/LM48510.html; ComponentLink3Description: SDA16B Package Page; ComponentLink3URL: http://www.national.com/packaging/folders/sda16b.html
footprint SDA16B (SON, 16-Leads, Body 5x4mm, Pitch 0.5mm, NSC Recommended)
pins: 1 VO1 (out), 2 GND1 (power), 3 PV1 (power), 4 VO2 (out), 5 NC, 6 ~{SDBOOST} (in), 7 GND2 (power), 8 FB (in), 9 SW, 10 GND3 (power), 11 VDD (power), 12 NC, 13 +IN (in), 14 -IN (in), 15 V1 (power), 16 ~{SDAMP} (in), 17 DAP (power)

## LM48510SDE/NOPB
designator U?
Boosted Class D Audio Power Amplifier, 16-pin LLP, Pb-Free; PartNumber: LM48510SDE/NOPB; Manufacturer: National Semiconductor; PackageTopMarking: NS*UZXYTT*L48510; PowerWise: N; CompType: Audio IC; Published: 1-Mar-2010; DatasheetVersion: Oct-2007; PackageVersion: revA, Dec-2004; PackageReference: SDA16B; Publisher: Altium Limited; PackageDescription: LLP, Plastic, Dual, 5 x 4 x 0.8mm, 16 Lead, 0.5mm Pitch, No Pullback; Supplier 1: Digi-Key; Supplier Part Number 1: LM48510SDE-ND; RoHS: Y; PinCount: 16; ComponentLink1Description: LM48510 Datasheet; ComponentLink1URL: http://www.national.com/ds/LM/LM48510.pdf; ComponentLink2Description: LM48510 Web Page; ComponentLink2URL: http://www.national.com/pf/LM/LM48510.html; ComponentLink3Description: SDA16B Package Page; ComponentLink3URL: http://www.national.com/packaging/folders/sda16b.html
footprint SDA16B (SON, 16-Leads, Body 5x4mm, Pitch 0.5mm, NSC Recommended)
pins: 1 VO1 (out), 2 GND1 (power), 3 PV1 (power), 4 VO2 (out), 5 NC, 6 ~{SDBOOST} (in), 7 GND2 (power), 8 FB (in), 9 SW, 10 GND3 (power), 11 VDD (power), 12 NC, 13 +IN (in), 14 -IN (in), 15 V1 (power), 16 ~{SDAMP} (in), 17 DAP (power)

## LM48510SDX/NOPB
designator U?
Boosted Class D Audio Power Amplifier, 16-pin LLP, Pb-Free; PartNumber: LM48510SDX/NOPB; Manufacturer: National Semiconductor; PackageTopMarking: NS*UZXYTT*L48510; PowerWise: Y; CompType: Audio IC; Published: 1-Mar-2010; DatasheetVersion: Oct-2007; PackageVersion: revA, Dec-2004; PackageReference: SDA16B; Publisher: Altium Limited; PackageDescription: LLP, Plastic, Dual, 5 x 4 x 0.8mm, 16 Lead, 0.5mm Pitch, No Pullback; Supplier 1: Digi-Key; Supplier Part Number 1: LM48510SDX-ND; RoHS: Y; PinCount: 16; ComponentLink1Description: LM48510 Datasheet; ComponentLink1URL: http://www.national.com/ds/LM/LM48510.pdf; ComponentLink2Description: LM48510 Web Page; ComponentLink2URL: http://www.national.com/pf/LM/LM48510.html; ComponentLink3Description: SDA16B Package Page; ComponentLink3URL: http://www.national.com/packaging/folders/sda16b.html
footprint SDA16B (SON, 16-Leads, Body 5x4mm, Pitch 0.5mm, NSC Recommended)
pins: 1 VO1 (out), 2 GND1 (power), 3 PV1 (power), 4 VO2 (out), 5 NC, 6 ~{SDBOOST} (in), 7 GND2 (power), 8 FB (in), 9 SW, 10 GND3 (power), 11 VDD (power), 12 NC, 13 +IN (in), 14 -IN (in), 15 V1 (power), 16 ~{SDAMP} (in), 17 DAP (power)

## LM48511SQ
designator U?
3W, Ultra-Low EMI, Filterless, Mono, Class D Audio Power Amplifier with Spread Spectrum, 25-pin LLP; PartNumber: LM48511SQ; Manufacturer: National Semiconductor; PackageTopMarking: NS*UZXYTT*48511SQ; PowerWise: N; CompType: Audio IC; Published: 4-Dec-2008; DatasheetVersion: Feb-2008; PackageVersion: revA, Oct-2003; PackageReference: SQA24B; Publisher: Altium Limited; PackageDescription: LLP, Plastic, Quad, 5 x 4 x 0.8mm Body, 24 Lead, 0.5mm Pitch, No Pullback; RoHS: Y; PinCount: 24; Code_JEDEC: MO-220-WGHD-1; ComponentLink1Description: LM48511 Datasheet; ComponentLink1URL: http://www.national.com/ds/LM/LM48511.pdf; ComponentLink2Description: LM48511 Web Page; ComponentLink2URL: http://www.national.com/pf/LM/LM48511.html; ComponentLink3Description: SQA24B Package Page; ComponentLink3URL: http://www.national.com/packaging/folders/sqa24b.html
footprint SQA24B (QFN, 24-Leads, Body 5x4mm, Pitch 0.5mm, NSC Recommended)
pins: 1 FB_SEL (in), 2 SW (oc), 3 SW (oc), 4 SOFTSTART, 5 ~{SD}/AMP (in), 6 SS/~{FF} (in), 7 GND (power), 8 LS+ (out), 9 LSGND (power), 10 PV1 (power), 11 LSGND (power), 12 LS- (out), 13 V1 (power), 14 VGO+ (out), 15 IN- (in), 16 IN+ (in), 17 VGO- (out), 18 VDD (power), 19 FB (in), 20 FB_GND1 (power), 21 FB_GND0 (power), 22 REGGND (power), 23 REGGND (power), 24 ~{SD}_BOOST (in), 25 DAP (power)

## LM48511SQ/NOPB
designator U?
3W, Ultra-Low EMI, Filterless, Mono, Class D Audio Power Amplifier with Spread Spectrum, 24-pin LLP, Pb-Free; PartNumber: LM48511SQ/NOPB; Manufacturer: National Semiconductor; PackageTopMarking: NS*UZXYTT*48511SQ; PowerWise: N; CompType: Audio IC; Published: 1-Mar-2010; DatasheetVersion: Feb-2008; PackageVersion: revA, Oct-2003; PackageReference: SQA24B; Publisher: Altium Limited; PackageDescription: LLP, Plastic, Quad, 5 x 4 x 0.8mm Body, 24 Lead, 0.5mm Pitch, No Pullback; Supplier 1: Digi-Key; Supplier Part Number 1: LM48511SQTR-ND; Supplier 2: Digi-Key; Supplier Part Number 2: LM48511SQCT-ND; Supplier 3: Digi-Key; Supplier Part Number 3: LM48511SQDKR-ND; Supplier 4: Farnell; Supplier Part Number 4: 1685331; RoHS: Y; PinCount: 24; Code_JEDEC: MO-220-WGHD-1; ComponentLink1Description: LM48511 Datasheet; ComponentLink1URL: http://www.national.com/ds/LM/LM48511.pdf; ComponentLink2Description: LM48511 Web Page; ComponentLink2URL: http://www.national.com/pf/LM/LM48511.html; ComponentLink3Description: SQA24B Package Page; ComponentLink3URL: http://www.national.com/packaging/folders/sqa24b.html
footprint SQA24B (QFN, 24-Leads, Body 5x4mm, Pitch 0.5mm, NSC Recommended)
pins: 1 FB_SEL (in), 2 SW (oc), 3 SW (oc), 4 SOFTSTART, 5 ~{SD}/AMP (in), 6 SS/~{FF} (in), 7 GND (power), 8 LS+ (out), 9 LSGND (power), 10 PV1 (power), 11 LSGND (power), 12 LS- (out), 13 V1 (power), 14 VGO+ (out), 15 IN- (in), 16 IN+ (in), 17 VGO- (out), 18 VDD (power), 19 FB (in), 20 FB_GND1 (power), 21 FB_GND0 (power), 22 REGGND (power), 23 REGGND (power), 24 ~{SD}_BOOST (in), 25 DAP (power)

## LM48511SQX/NOPB
designator U?
3W, Ultra-Low EMI, Filterless, Mono, Class D Audio Power Amplifier with Spread Spectrum, 24-pin LLP, Pb-Free; PartNumber: LM48511SQX/NOPB; Manufacturer: National Semiconductor; PackageTopMarking: NS*UZXYTT*48511SQ; PowerWise: N; CompType: Audio IC; Published: 1-Mar-2010; DatasheetVersion: Feb-2008; PackageVersion: revA, Oct-2003; PackageReference: SQA24B; Publisher: Altium Limited; PackageDescription: LLP, Plastic, Quad, 5 x 4 x 0.8mm Body, 24 Lead, 0.5mm Pitch, No Pullback; Supplier 1: Digi-Key; Supplier Part Number 1: LM48511SQX-ND; RoHS: Y; PinCount: 24; Code_JEDEC: MO-220-WGHD-1; ComponentLink1Description: LM48511 Datasheet; ComponentLink1URL: http://www.national.com/ds/LM/LM48511.pdf; ComponentLink2Description: LM48511 Web Page; ComponentLink2URL: http://www.national.com/pf/LM/LM48511.html; ComponentLink3Description: SQA24B Package Page; ComponentLink3URL: http://www.national.com/packaging/folders/sqa24b.html
footprint SQA24B (QFN, 24-Leads, Body 5x4mm, Pitch 0.5mm, NSC Recommended)
pins: 1 FB_SEL (in), 2 SW (oc), 3 SW (oc), 4 SOFTSTART, 5 ~{SD}/AMP (in), 6 SS/~{FF} (in), 7 GND (power), 8 LS+ (out), 9 LSGND (power), 10 PV1 (power), 11 LSGND (power), 12 LS- (out), 13 V1 (power), 14 VGO+ (out), 15 IN- (in), 16 IN+ (in), 17 VGO- (out), 18 VDD (power), 19 FB (in), 20 FB_GND1 (power), 21 FB_GND0 (power), 22 REGGND (power), 23 REGGND (power), 24 ~{SD}_BOOST (in), 25 DAP (power)

## LM48520TL
designator U?
Boosted Stereo Class D Audio Power Amplifier with Output Speaker Protection and Spread Spectrum, 25-pin Micro SMD; PartNumber: LM48520TL; Manufacturer: National Semiconductor; PackageTopMarking: XYTT*I GI5; PowerWise: N; CompType: Audio IC; Published: 4-Dec-2008; DatasheetVersion: Mar-2008; PackageVersion: revD, Dec-2003; PackageReference: TLA25AAA; Publisher: Altium Limited; PackageDescription: Thin Micro SMD, 25 Bump (Large), 0.5mm Pitch; RoHS: Y; PinCount: 25; Code_JEDEC: MO-211-DH; ComponentLink1Description: LM48520 Datasheet; ComponentLink1URL: http://www.national.com/ds/LM/LM48520.pdf; ComponentLink2Description: LM48520 Web Page; ComponentLink2URL: http://www.national.com/pf/LM/LM48520.html; ComponentLink3Description: TLA25AAA Package Page; ComponentLink3URL: http://www.national.com/packaging/folders/tla25aaa.html
footprint TLA25AAA (Micro SMD, 25-Leads, Body 2.49x2.49mm, Pitch 0.5mm, NSC Recommended)
pins: A1 VDD (power), A2 BSTFB (in), A3 SS, A4 SW_GND (power), A5 SW, B1 INR+ (in), B2 INR- (in), B3 FB-GND (power), B4 INL- (in), B5 INL+ (in), C1 V1 (power), C2 ~{BOOST SD} (in), C3 GND (power), C4 GAIN0 (in), C5 PV1 (power), D1 ~{AMP SD} (in), D2 OUTR+ (out), D3 NC, D4 OUTL+ (out), D5 GAIN1 (in), E1 VLIMIT (in), E2 OUTR- (out), E3 PGND (power), E4 OUTL- (out), E5 NC

## LM48520TL/NOPB
designator U?
Boosted Stereo Class D Audio Power Amplifier with Output Speaker Protection and Spread Spectrum, 25-pin Micro SMD, Pb-Free; PartNumber: LM48520TL/NOPB; Manufacturer: National Semiconductor; PackageTopMarking: XYTT*I GI5; PowerWise: N; CompType: Audio IC; Published: 1-Mar-2010; DatasheetVersion: Mar-2008; PackageVersion: revD, Dec-2003; PackageReference: TLA25AAA; Publisher: Altium Limited; PackageDescription: Thin Micro SMD, 25 Bump (Large), 0.5mm Pitch; Supplier 1: Digi-Key; Supplier Part Number 1: LM48520TLTR-ND; Supplier 2: Digi-Key; Supplier Part Number 2: LM48520TLCT-ND; Supplier 3: Digi-Key; Supplier Part Number 3: LM48520TLDKR-ND; RoHS: Y; PinCount: 25; Code_JEDEC: MO-211-DH; ComponentLink1Description: LM48520 Datasheet; ComponentLink1URL: http://www.national.com/ds/LM/LM48520.pdf; ComponentLink2Description: LM48520 Web Page; ComponentLink2URL: http://www.national.com/pf/LM/LM48520.html; ComponentLink3Description: TLA25AAA Package Page; ComponentLink3URL: http://www.national.com/packaging/folders/tla25aaa.html
footprint TLA25AAA (Micro SMD, 25-Leads, Body 2.49x2.49mm, Pitch 0.5mm, NSC Recommended)
pins: A1 VDD (power), A2 BSTFB (in), A3 SS, A4 SW_GND (power), A5 SW, B1 INR+ (in), B2 INR- (in), B3 FB-GND (power), B4 INL- (in), B5 INL+ (in), C1 V1 (power), C2 ~{BOOST SD} (in), C3 GND (power), C4 GAIN0 (in), C5 PV1 (power), D1 ~{AMP SD} (in), D2 OUTR+ (out), D3 NC, D4 OUTL+ (out), D5 GAIN1 (in), E1 VLIMIT (in), E2 OUTR- (out), E3 PGND (power), E4 OUTL- (out), E5 NC

## LM48520TLX/NOPB
designator U?
Boosted Stereo Class D Audio Power Amplifier with Output Speaker Protection and Spread Spectrum, 25-pin Micro SMD, Pb-Free; PartNumber: LM48520TLX/NOPB; Manufacturer: National Semiconductor; PackageTopMarking: XYTT*I GI5; PowerWise: N; CompType: Audio IC; Published: 1-Mar-2010; DatasheetVersion: Mar-2008; PackageVersion: revD, Dec-2003; PackageReference: TLA25AAA; Publisher: Altium Limited; PackageDescription: Thin Micro SMD, 25 Bump (Large), 0.5mm Pitch; Supplier 1: Digi-Key; Supplier Part Number 1: LM48520TLX-ND; RoHS: Y; PinCount: 25; Code_JEDEC: MO-211-DH; ComponentLink1Description: LM48520 Datasheet; ComponentLink1URL: http://www.national.com/ds/LM/LM48520.pdf; ComponentLink2Description: LM48520 Web Page; ComponentLink2URL: http://www.national.com/pf/LM/LM48520.html; ComponentLink3Description: TLA25AAA Package Page; ComponentLink3URL: http://www.national.com/packaging/folders/tla25aaa.html
footprint TLA25AAA (Micro SMD, 25-Leads, Body 2.49x2.49mm, Pitch 0.5mm, NSC Recommended)
pins: A1 VDD (power), A2 BSTFB (in), A3 SS, A4 SW_GND (power), A5 SW, B1 INR+ (in), B2 INR- (in), B3 FB-GND (power), B4 INL- (in), B5 INL+ (in), C1 V1 (power), C2 ~{BOOST SD} (in), C3 GND (power), C4 GAIN0 (in), C5 PV1 (power), D1 ~{AMP SD} (in), D2 OUTR+ (out), D3 NC, D4 OUTL+ (out), D5 GAIN1 (in), E1 VLIMIT (in), E2 OUTR- (out), E3 PGND (power), E4 OUTL- (out), E5 NC

## LM48555TL
designator U?
Ceramic Speaker Driver, 12-pin Micro SMD; PartNumber: LM48555TL; Manufacturer: National Semiconductor; PackageTopMarking: XVG*I I4; PowerWise: N; CompType: Audio IC; Published: 4-Dec-2008; DatasheetVersion: Mar-2007; PackageVersion: revC, Jan-2004; PackageReference: TLA12Z1A; Publisher: Altium Limited; PackageDescription: Thin Micro SMD, 12 Bump (Large), Area Array, 0.5mm Pitch; Supplier 1: Farnell; Supplier Part Number 1: 1342328; RoHS: Y; PinCount: 12; Code_JEDEC: MO-211-DE; ComponentLink1Description: LM48555 Datasheet; ComponentLink1URL: http://www.national.com/ds/LM/LM48555.pdf; ComponentLink2Description: LM48555 Web Page; ComponentLink2URL: http://www.national.com/pf/LM/LM48555.html; ComponentLink3Description: TLA12Z1A Package Page; ComponentLink3URL: http://www.national.com/packaging/folders/tla12z1a.html
footprint TLA12Z1A (Micro SMD, 12-Leads, Body 1.97x1.47mm, Pitch 0.5mm, NSC Recommended)
pins: A1 OUT- (out), A2 VAMP (out), A3 OUT+ (out), B1 IN+ (in), B2 GND (power), B3 IN- (in), C1 BOOTSTRAP (in), C2 ~{SD} (in), C3 SS (in), D1 GND (SW) (power), D2 SW (oc), D3 VDD (power)

## LM48555TL/NOPB
designator U?
Ceramic Speaker Driver, 12-pin Micro SMD, Pb-Free; PartNumber: LM48555TL/NOPB; Manufacturer: National Semiconductor; PackageTopMarking: XVG*I I4; PowerWise: N; CompType: Audio IC; Published: 1-Mar-2010; DatasheetVersion: Mar-2007; PackageVersion: revC, Jan-2004; PackageReference: TLA12Z1A; Publisher: Altium Limited; PackageDescription: Thin Micro SMD, 12 Bump (Large), Area Array, 0.5mm Pitch; Supplier 1: Digi-Key; Supplier Part Number 1: LM48555TLTR-ND; Supplier 2: Digi-Key; Supplier Part Number 2: LM48555TLCT-ND; Supplier 3: Digi-Key; Supplier Part Number 3: LM48555TLDKR-ND; RoHS: Y; PinCount: 12; Code_JEDEC: MO-211-DE; ComponentLink1Description: LM48555 Datasheet; ComponentLink1URL: http://www.national.com/ds/LM/LM48555.pdf; ComponentLink2Description: LM48555 Web Page; ComponentLink2URL: http://www.national.com/pf/LM/LM48555.html; ComponentLink3Description: TLA12Z1A Package Page; ComponentLink3URL: http://www.national.com/packaging/folders/tla12z1a.html
footprint TLA12Z1A (Micro SMD, 12-Leads, Body 1.97x1.47mm, Pitch 0.5mm, NSC Recommended)
pins: A1 OUT- (out), A2 VAMP (out), A3 OUT+ (out), B1 IN+ (in), B2 GND (power), B3 IN- (in), C1 BOOTSTRAP (in), C2 ~{SD} (in), C3 SS (in), D1 GND (SW) (power), D2 SW (oc), D3 VDD (power)